# Altium schematic symbol library Cap 100p.SCHLIB: 1 symbol
Pins are listed as number, name and electrical type; pins without a type are passive.

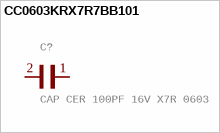
[diagram p0: symbol CC0603KRX7R7BB101]

## CC0603KRX7R7BB101
designator C?, comment CAP CER 100PF 16V X7R 0603
GateName_1: G$1; SymbolName_1: CC0603KRX7R7BB101; Description: 100pF ±10% 16V Ceramic Capacitor X7R 0603 (1608 Metric); MF: Yageo; LibraryName: Cap 100p; DeviceSetName: CC0603KRX7R7BB101; Package: CAPC1608X90; MP: CC0603KRX7R7BB101; Package: 0603 Yageo; Digi-Key_Part_Number: 311-4062-1-ND
footprint CAPC1608X90
pins: 1, 2